# EAGLE library part 74ABT125 (library nxp_60)
Quad bus BUFFER, 3-state The 74ABT125 high-performance BiCMOS device combines low static and dynamic power dissipation with high speed and high output drive. The 74ABT125 device is a quad buffer that is ideal for driving bus lines. The device features four Output Enables (1OE, 2OE, 3OE, 4OE), each controlling one of the 3-state outputs. AAL Eindhoven MK
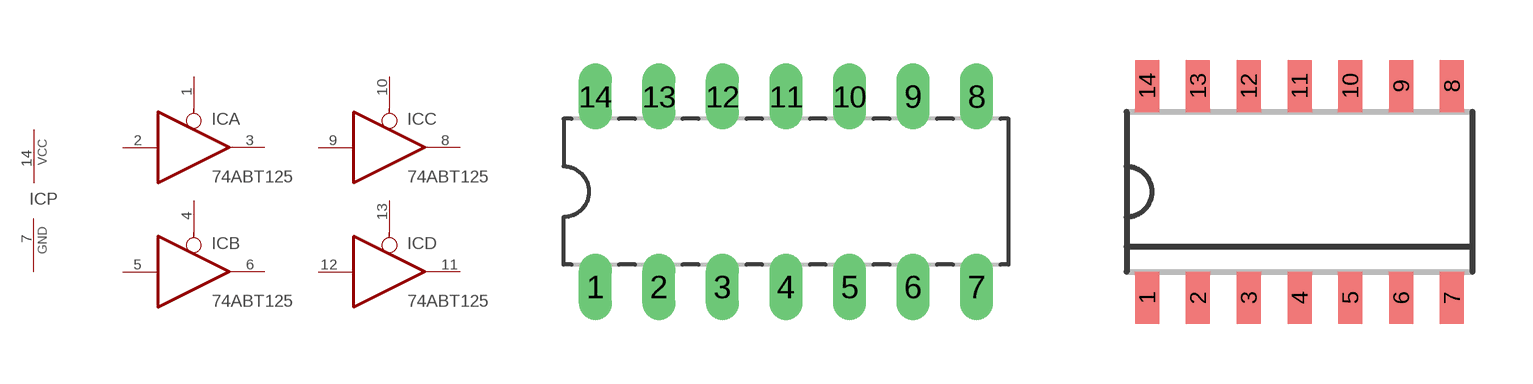
[diagram p66: symbol with the pads of SOT27; footprints SOT27, SOT108-1]

Designator prefix IC; gates A=74125 B=74125 C=74125 D=74125 P=PWRN-1

## 74ABT125N  [SOT27]
1  A:OE  in
2  A:I  in
3  A:O  hiz
4  B:OE  in
5  B:I  in
6  B:O  hiz
7  P:GND  pwr
8  C:O  hiz
9  C:I  in
10  C:OE  in
11  D:O  hiz
12  D:I  in
13  D:OE  in
14  P:VCC  pwr

## 74ABT125D  [SOT108-1]
Pads as for SOT27

## 74ABT125DB  [SOT337]
Pads as for SOT27

## 74ABT125PW  [SOT402-1]
Pads as for SOT27

## 74ABT125BQ  [SOT762]
Pads as for SOT27

## Footprint SOT27 (pad centres in mm)
Dual In Line Package
drill 0.813 long: 1 -7.62,-3.81; 2 -5.08,-3.81; 3 -2.54,-3.81; 4 0,-3.81; 5 2.54,-3.81; 6 5.08,-3.81; 7 7.62,-3.81; 8 7.62,3.81; 9 5.08,3.81; 10 2.54,3.81; 11 0,3.81; 12 -2.54,3.81; 13 -5.08,3.81; 14 -7.62,3.81

## Footprint SOT108-1 (pad centres in mm)
SOT108-1 SO14: plastic small outline package; 14 leads; body width 3.9 mm; body thickness 1.47 mm JEDEC: MS-012 IEC: --
smd 0.6 x 1.3: 1 -3.81,-2.65; 2 -2.54,-2.65; 3 -1.27,-2.65; 4 0,-2.65; 5 1.27,-2.65; 6 2.54,-2.65; 7 3.81,-2.65; 8 3.81,2.65; 9 2.54,2.65; 10 1.27,2.65; 11 0,2.65; 12 -1.27,2.65; 13 -2.54,2.65; 14 -3.81,2.65

## Footprint SOT337 (pad centres in mm)
SOT337 SSOP14: plastic shrink small outline package; 14 leads; body width 5.3 mm JEDEC: MO-150 IEC: --
smd 0.4 x 1.2: 1 -1.95,-3.45; 2 -1.3,-3.45; 3 -0.65,-3.45; 4 0,-3.45; 5 0.65,-3.45; 6 1.3,-3.45; 7 1.95,-3.45; 8 1.95,3.45; 9 1.3,3.45; 10 0.65,3.45; 11 0,3.45; 12 -0.65,3.45; 13 -1.3,3.45; 14 -1.95,3.45

## Footprint SOT402-1 (pad centres in mm)
SOT402-1 TSSOP14: plastic thin shrink small outline package; 14 leads; body width 4.4 mm JEDEC: MO-153 IEC: ---
smd 0.6 x 1.35: 1 -2.05,-2.925; 7 2.05,-2.925; 8 2.05,2.925; 14 -2.05,2.925
smd 0.4 x 1.35: 2 -1.3,-2.925; 3 -0.65,-2.925; 4 0,-2.925; 5 0.65,-2.925; 6 1.3,-2.925; 9 1.3,2.925; 10 0.65,2.925; 11 0,2.925; 12 -0.65,2.925; 13 -1.3,2.925

## Footprint SOT762 (pad centres in mm)
SOT762 DHVQFN14: plastic dual in-line compatible thermal enhanced very thin quad flat package; no leads; 14 terminals; body 2.5 x 3 x 0.85 mm JEDEC: MO-241 IEC: -- JEITA: --
smd 1 x 0.29: 1 -1.5,-0.25; 7 1.5,-0.25; 8 1.5,0.25; 14 -1.5,0.25
smd 0.29 x 1: 2 -1,-1.35; 3 -0.5,-1.35; 4 0,-1.35; 5 0.5,-1.35; 6 1,-1.35; 9 1,1.35; 10 0.5,1.35; 11 0,1.35; 12 -0.5,1.35; 13 -1,1.35
smd 1.4 x 0.9: CP 0,0